# Altium footprint library can_10_0.PcbLib: 1 footprints
Each footprint in its own frame and in the unit in brackets; x right, y up, seen from the top. Pads: shape width x height; smd on the part's side, far side on the other; paste and mask are expansions set on the pad; w line width, h text height; cw(c..) or ccw(c..) is an arc to the next point about the centre after c.
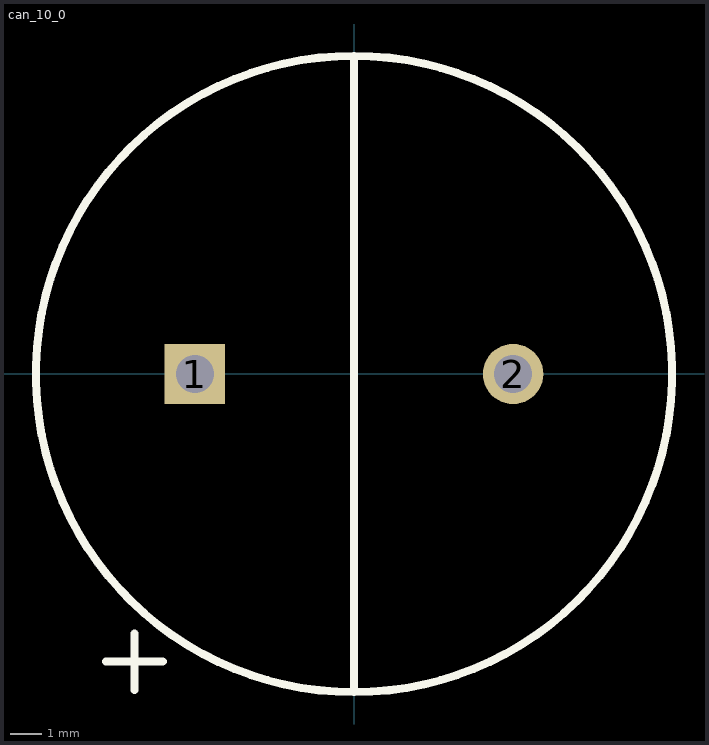
[diagram p0: the footprint, top view; thin cyan lines are the x and y axes]

## can_10_0 [mm] "2 Leaded Al Cap, 10mm spacing, 20mm diameter"
height 20
pads (2):
  rect 1.9x1.9 hole 1.2: 1(-5,0)
  round 1.9 hole 1.2: 2(5,0)
Top Overlay:
  lines w0.25: 0,-10 0,10
  lines w0.254: -7.789,-9.039 -6.011,-9.039 ; -6.9,-9.928 -6.9,-8.15 ; 0,-10 ccw(c0,0) 0,10 ccw(c0,0) 0,-10
3D body: height 20, standoff 0, extent -10,-10 10,10